# Altium integrated library Cypress Clocks & Buffers Clock Distribution.IntLib: 321 symbols (part 14 of 25)
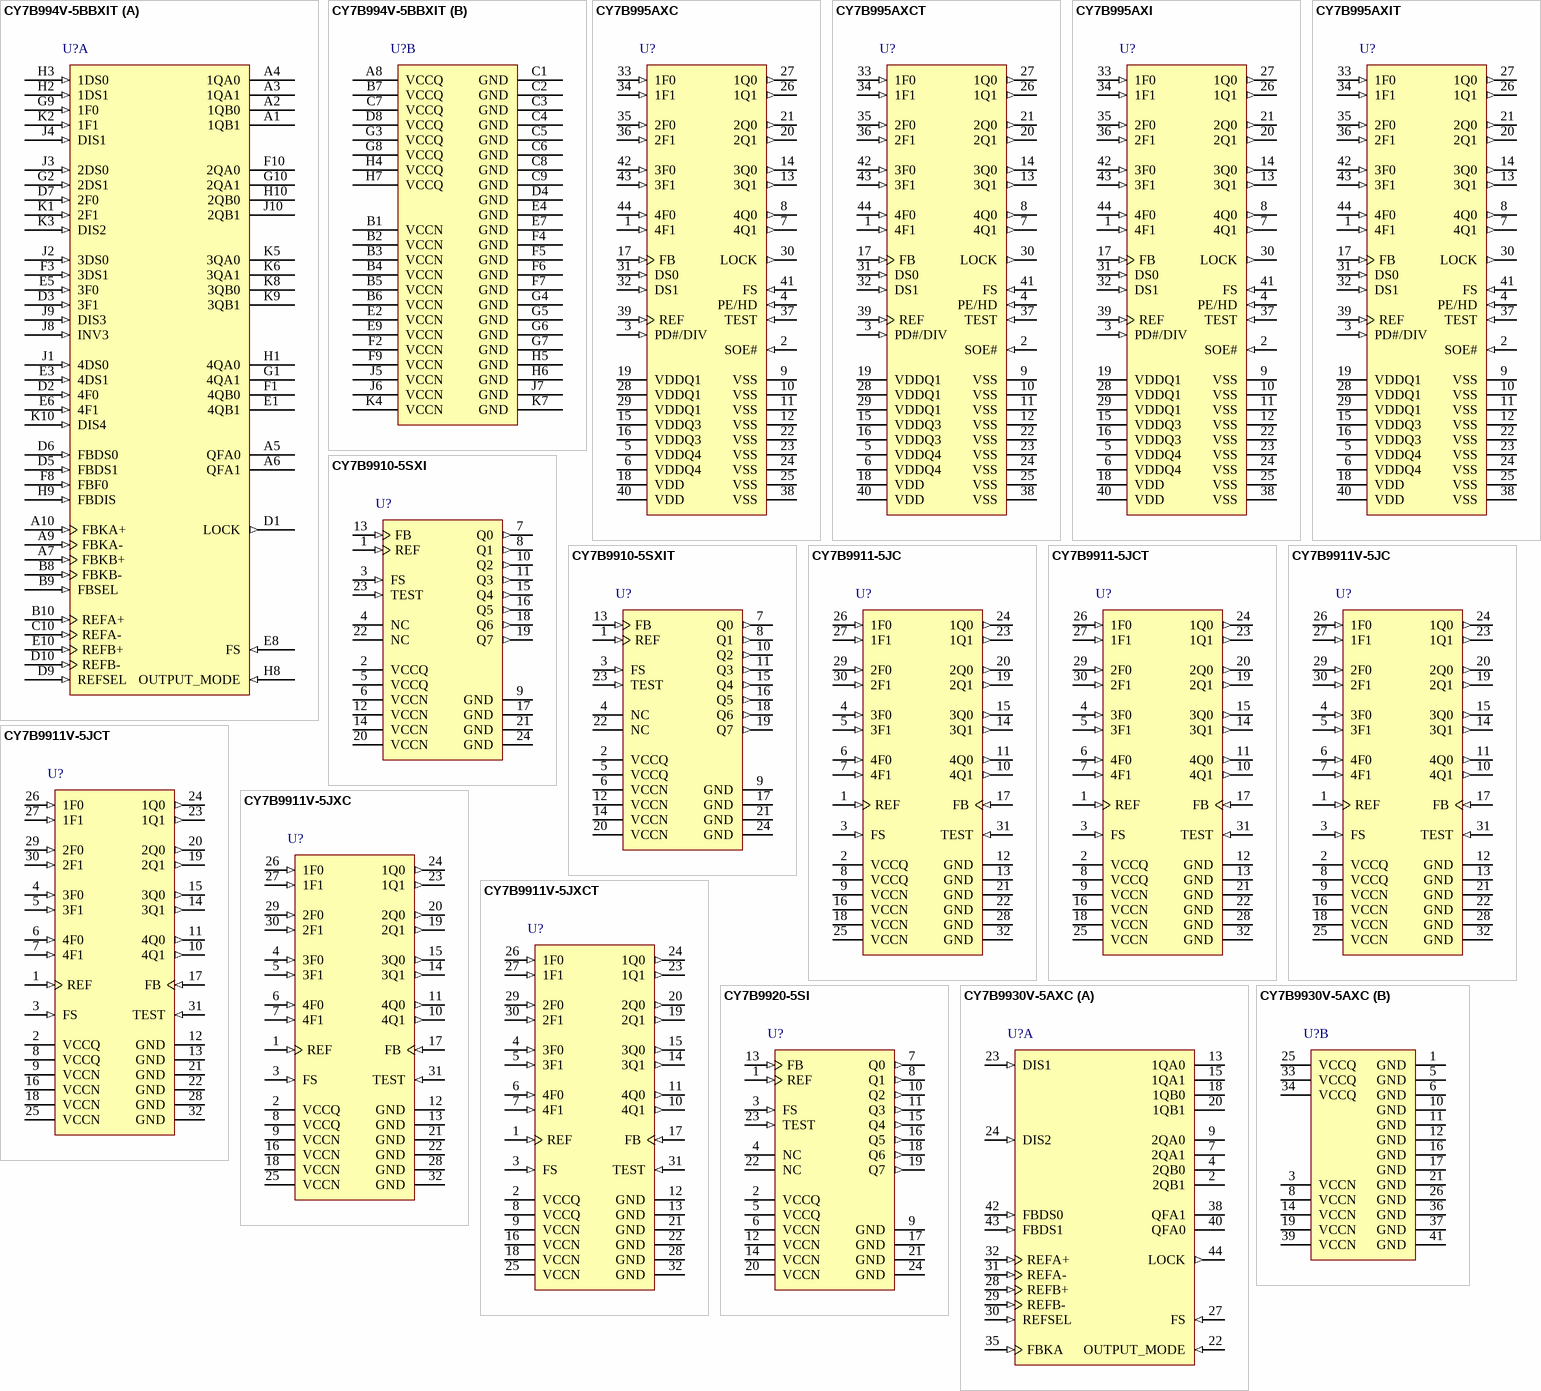
[diagram p29: symbols CY7B994V-5BBXIT to CY7B9930V-5AXC]

## CY7B995AXCT
designator U?
High-Speed Multi-Phase PLL Clock Buffer, 2.5 / 3.3 V, 8 Outputs, 6 to 200 MHz, 0 to 70 degC, 44-Pin TQFP (AX44), Tape and Reel; Manufacturer: Cypress; PartNumber: CY7B995AXCT; Input Frequency Max. (MHz): 200; Input Frequency Min. (MHz): 6; Max. Operating Voltage (V): 3.63; Min. Operating Voltage (V): 2.25; No. of Outputs: 8; DatasheetVersion: Rev. *G; PackageReference: AX44; PackageDescription: 44-Pin Thin Plastic Quad Flatpack, Body 10 x 10 mm, Pitch 0.8 mm; Supplier 1: Digi-Key; Supplier Part Number 1: CY7B995AXCT-ND; Supplier 2: Newark; Supplier Part Number 2: 53M3523; Supplier 3: Mouser; Supplier Part Number 3: 727-CY7B995AXCT; Max. Operating Temp. (degreesC): 70; Min. Operating Temp. (degreesC): 0; Output Frequency Max. (MHz): 200; Output Frequency Min. (MHz): 6; Packing: Tape and Reel; RoHS: Pb-Free; Mounting Technology: Surface Mount; Code_JEDEC: MS-026; ComponentLink1Description: Manufacturer URL; ComponentLink1URL: http://www.cypress.com/; ComponentLink2Description: Datasheet; ComponentLink2URL: http://www.cypress.com/?docID=48487; ComponentLink3Description: Package Specification; ComponentLink3URL: http://www.cypress.com/?docID=39206
footprint CYP-AX44_N (QFP, 44-Leads, Body 10x10mm, Pitch 0.8mm, IPC Medium Density)
footprint CYP-AX44_L (QFP, 44-Leads, Body 10x10mm, Pitch 0.8mm, IPC High Density)
footprint CYP-AX44_M (QFP, 44-Leads, Body 10x10mm, Pitch 0.8mm, IPC Low Density)
pins: 1 4F1 (in) "Selects Frequency and Phase of the Outputs. See Table 4, Table 5, Table 6, Table 8, and Table 9 on page 6.", 2 SOE# (in) "Synchronous Output Enable. When HIGH, it stops clock outputs (except 2Q0 and 2Q1) in a LOW state (for PE/HD = H or M) - 2Q0, and 2Q1 may be used as the feedback signal to maintain phase lock. When TEST is held at MID level (See Datasheet)", 3 PD#/DIV (in) "Power down and Reference Divider Control. When LOW, shuts off entire chip. When at MID level, enables the reference divider. See Table 2 for settings.", 4 PE/HD (in) "Selects Positive or Negative Edge Control, and High or Low output Drive Strength. When LOW/HIGH, the outputs are synchronized with the negative/positive edge of the reference clock respectively. When at MID level, the output (See Datasheet)", 5 VDDQ4 (power) "Power supply for Bank 4 Output Buffers. See Table 11 on page 7 for supply level constraints.", 6 VDDQ4 (power) "Power supply for Bank 4 Output Buffers. See Table 11 on page 7 for supply level constraints.", 7 4Q1 (out) "Four banks of two outputs. See Table 6 on page 6 for frequency settings.", 8 4Q0 (out) "Four banks of two outputs. See Table 6 on page 6 for frequency settings.", 9 VSS (power) "Ground", 10 VSS (power) "Ground", 11 VSS (power) "Ground", 12 VSS (power) "Ground", 13 3Q1 (out) "Four banks of two outputs. See Table 6 on page 6 for frequency settings.", 14 3Q0 (out) "Four banks of two outputs. See Table 6 on page 6 for frequency settings.", 15 VDDQ3 (power) "Power supply for Bank 3 Output Buffers. See Table 11 on page 7 for supply level constraints.", 16 VDDQ3 (power) "Power supply for Bank 3 Output Buffers. See Table 11 on page 7 for supply level constraints.", 17 FB (in) "Feedback Input.", 18 VDD (power) "Power supply for the Internal Circuitry. See Table 11 on page 7 for supply level constraints.", 19 VDDQ1 (power) "Power supply for Bank 1 and Bank 2 Output Buffers. See Table 11 on page 7 for supply level constraints.", 20 2Q1 (out) "Four banks of two outputs. See Table 6 on page 6 for frequency settings.", 21 2Q0 (out) "Four banks of two outputs. See Table 6 on page 6 for frequency settings.", 22 VSS (power) "Ground", 23 VSS (power) "Ground", 24 VSS (power) "Ground", 25 VSS (power) "Ground", 26 1Q1 (out) "Four banks of two outputs. See Table 6 on page 6 for frequency settings.", 27 1Q0 (out) "Four banks of two outputs. See Table 6 on page 6 for frequency settings.", 28 VDDQ1 (power) "Power supply for Bank 1 and Bank 2 Output Buffers. See Table 11 on page 7 for supply level constraints.", 29 VDDQ1 (power) "Power supply for Bank 1 and Bank 2 Output Buffers. See Table 11 on page 7 for supply level constraints.", 30 LOCK (out) "PLL Lock Indication Signal. HIGH indicates lock, LOW indicates the PLL is not locked, and outputs may not be synchronized to the input.", 31 DS0 (in) "Selects Feedback Divider. See Table 3 on page 6.", 32 DS1 (in) "Selects Feedback Divider. See Table 3 on page 6.", 33 1F0 (in) "Selects Frequency and Phase of the Outputs. See Table 4, Table 5, Table 6, Table 8, and Table 9 on page 6.", 34 1F1 (in) "Selects Frequency and Phase of the Outputs. See Table 4, Table 5, Table 6, Table 8, and Table 9 on page 6.", 35 2F0 (in) "Selects Frequency and Phase of the Outputs. See Table 4, Table 5, Table 6, Table 8, and Table 9 on page 6.", 36 2F1 (in) "Selects Frequency and Phase of the Outputs. See Table 4, Table 5, Table 6, Table 8, and Table 9 on page 6.", 37 TEST (in) "When MID or HIGH, disables PLL[2]. REF goes to all outputs. Set LOW for normal operation.", 38 VSS (power) "Ground", 39 REF (in) "Reference Clock Input.", 40 VDD (power) "Power supply for the Internal Circuitry. See Table 11 on page 7 for supply level constraints.", 41 FS (in) "Selects VCO Operating Frequency Range. See Table 7 on page 6.", 42 3F0 (in) "Selects Frequency and Phase of the Outputs. See Table 4, Table 5, Table 6, Table 8, and Table 9 on page 6.", 43 3F1 (in) "Selects Frequency and Phase of the Outputs. See Table 4, Table 5, Table 6, Table 8, and Table 9 on page 6.", 44 4F0 (in) "Selects Frequency and Phase of the Outputs. See Table 4, Table 5, Table 6, Table 8, and Table 9 on page 6."

## CY7B995AXI
designator U?
High-Speed Multi-Phase PLL Clock Buffer, 2.5 / 3.3 V, 8 Outputs, 6 to 200 MHz, -40 to 85 degC, 44-Pin TQFP (AX44), Tray; Manufacturer: Cypress; PartNumber: CY7B995AXI; Input Frequency Max. (MHz): 200; Input Frequency Min. (MHz): 6; Max. Operating Voltage (V): 3.63; Min. Operating Voltage (V): 2.25; No. of Outputs: 8; DatasheetVersion: Rev. *G; PackageReference: AX44; PackageDescription: 44-Pin Thin Plastic Quad Flatpack, Body 10 x 10 mm, Pitch 0.8 mm; Supplier 1: Digi-Key; Supplier Part Number 1: CY7B995AXI-ND; Supplier 2: Newark; Supplier Part Number 2: 41M1340; Supplier 3: Mouser; Supplier Part Number 3: 727-CY7B995AXI; Max. Operating Temp. (degreesC): 85; Min. Operating Temp. (degreesC): -40; Output Frequency Max. (MHz): 200; Output Frequency Min. (MHz): 6; Packing: Tray; RoHS: Pb-Free; Mounting Technology: Surface Mount; Code_JEDEC: MS-026; ComponentLink1Description: Manufacturer URL; ComponentLink1URL: http://www.cypress.com/; ComponentLink2Description: Datasheet; ComponentLink2URL: http://www.cypress.com/?docID=48487; ComponentLink3Description: Package Specification; ComponentLink3URL: http://www.cypress.com/?docID=39206
footprint CYP-AX44_N (QFP, 44-Leads, Body 10x10mm, Pitch 0.8mm, IPC Medium Density)
footprint CYP-AX44_L (QFP, 44-Leads, Body 10x10mm, Pitch 0.8mm, IPC High Density)
footprint CYP-AX44_M (QFP, 44-Leads, Body 10x10mm, Pitch 0.8mm, IPC Low Density)
pins: 1 4F1 (in) "Selects Frequency and Phase of the Outputs. See Table 4, Table 5, Table 6, Table 8, and Table 9 on page 6.", 2 SOE# (in) "Synchronous Output Enable. When HIGH, it stops clock outputs (except 2Q0 and 2Q1) in a LOW state (for PE/HD = H or M) - 2Q0, and 2Q1 may be used as the feedback signal to maintain phase lock. When TEST is held at MID level (See Datasheet)", 3 PD#/DIV (in) "Power down and Reference Divider Control. When LOW, shuts off entire chip. When at MID level, enables the reference divider. See Table 2 for settings.", 4 PE/HD (in) "Selects Positive or Negative Edge Control, and High or Low output Drive Strength. When LOW/HIGH, the outputs are synchronized with the negative/positive edge of the reference clock respectively. When at MID level, the output (See Datasheet)", 5 VDDQ4 (power) "Power supply for Bank 4 Output Buffers. See Table 11 on page 7 for supply level constraints.", 6 VDDQ4 (power) "Power supply for Bank 4 Output Buffers. See Table 11 on page 7 for supply level constraints.", 7 4Q1 (out) "Four banks of two outputs. See Table 6 on page 6 for frequency settings.", 8 4Q0 (out) "Four banks of two outputs. See Table 6 on page 6 for frequency settings.", 9 VSS (power) "Ground", 10 VSS (power) "Ground", 11 VSS (power) "Ground", 12 VSS (power) "Ground", 13 3Q1 (out) "Four banks of two outputs. See Table 6 on page 6 for frequency settings.", 14 3Q0 (out) "Four banks of two outputs. See Table 6 on page 6 for frequency settings.", 15 VDDQ3 (power) "Power supply for Bank 3 Output Buffers. See Table 11 on page 7 for supply level constraints.", 16 VDDQ3 (power) "Power supply for Bank 3 Output Buffers. See Table 11 on page 7 for supply level constraints.", 17 FB (in) "Feedback Input.", 18 VDD (power) "Power supply for the Internal Circuitry. See Table 11 on page 7 for supply level constraints.", 19 VDDQ1 (power) "Power supply for Bank 1 and Bank 2 Output Buffers. See Table 11 on page 7 for supply level constraints.", 20 2Q1 (out) "Four banks of two outputs. See Table 6 on page 6 for frequency settings.", 21 2Q0 (out) "Four banks of two outputs. See Table 6 on page 6 for frequency settings.", 22 VSS (power) "Ground", 23 VSS (power) "Ground", 24 VSS (power) "Ground", 25 VSS (power) "Ground", 26 1Q1 (out) "Four banks of two outputs. See Table 6 on page 6 for frequency settings.", 27 1Q0 (out) "Four banks of two outputs. See Table 6 on page 6 for frequency settings.", 28 VDDQ1 (power) "Power supply for Bank 1 and Bank 2 Output Buffers. See Table 11 on page 7 for supply level constraints.", 29 VDDQ1 (power) "Power supply for Bank 1 and Bank 2 Output Buffers. See Table 11 on page 7 for supply level constraints.", 30 LOCK (out) "PLL Lock Indication Signal. HIGH indicates lock, LOW indicates the PLL is not locked, and outputs may not be synchronized to the input.", 31 DS0 (in) "Selects Feedback Divider. See Table 3 on page 6.", 32 DS1 (in) "Selects Feedback Divider. See Table 3 on page 6.", 33 1F0 (in) "Selects Frequency and Phase of the Outputs. See Table 4, Table 5, Table 6, Table 8, and Table 9 on page 6.", 34 1F1 (in) "Selects Frequency and Phase of the Outputs. See Table 4, Table 5, Table 6, Table 8, and Table 9 on page 6.", 35 2F0 (in) "Selects Frequency and Phase of the Outputs. See Table 4, Table 5, Table 6, Table 8, and Table 9 on page 6.", 36 2F1 (in) "Selects Frequency and Phase of the Outputs. See Table 4, Table 5, Table 6, Table 8, and Table 9 on page 6.", 37 TEST (in) "When MID or HIGH, disables PLL[2]. REF goes to all outputs. Set LOW for normal operation.", 38 VSS (power) "Ground", 39 REF (in) "Reference Clock Input.", 40 VDD (power) "Power supply for the Internal Circuitry. See Table 11 on page 7 for supply level constraints.", 41 FS (in) "Selects VCO Operating Frequency Range. See Table 7 on page 6.", 42 3F0 (in) "Selects Frequency and Phase of the Outputs. See Table 4, Table 5, Table 6, Table 8, and Table 9 on page 6.", 43 3F1 (in) "Selects Frequency and Phase of the Outputs. See Table 4, Table 5, Table 6, Table 8, and Table 9 on page 6.", 44 4F0 (in) "Selects Frequency and Phase of the Outputs. See Table 4, Table 5, Table 6, Table 8, and Table 9 on page 6."

## CY7B995AXIT
designator U?
High-Speed Multi-Phase PLL Clock Buffer, 2.5 / 3.3 V, 8 Outputs, 6 to 200 MHz, -40 to 85 degC, 44-Pin TQFP (AX44), Tape and Reel; Manufacturer: Cypress; PartNumber: CY7B995AXIT; Input Frequency Max. (MHz): 200; Input Frequency Min. (MHz): 6; Max. Operating Voltage (V): 3.63; Min. Operating Voltage (V): 2.25; No. of Outputs: 8; DatasheetVersion: Rev. *G; PackageReference: AX44; PackageDescription: 44-Pin Thin Plastic Quad Flatpack, Body 10 x 10 mm, Pitch 0.8 mm; Supplier 1: Digi-Key; Supplier Part Number 1: CY7B995AXIT-ND; Supplier 2: Mouser; Supplier Part Number 2: 727-CY7B995AXIT; Max. Operating Temp. (degreesC): 85; Min. Operating Temp. (degreesC): -40; Output Frequency Max. (MHz): 200; Output Frequency Min. (MHz): 6; Packing: Tape and Reel; RoHS: Pb-Free; Mounting Technology: Surface Mount; Code_JEDEC: MS-026; ComponentLink1Description: Manufacturer URL; ComponentLink1URL: http://www.cypress.com/; ComponentLink2Description: Datasheet; ComponentLink2URL: http://www.cypress.com/?docID=48487; ComponentLink3Description: Package Specification; ComponentLink3URL: http://www.cypress.com/?docID=39206
footprint CYP-AX44_N (QFP, 44-Leads, Body 10x10mm, Pitch 0.8mm, IPC Medium Density)
footprint CYP-AX44_L (QFP, 44-Leads, Body 10x10mm, Pitch 0.8mm, IPC High Density)
footprint CYP-AX44_M (QFP, 44-Leads, Body 10x10mm, Pitch 0.8mm, IPC Low Density)
pins: 1 4F1 (in) "Selects Frequency and Phase of the Outputs. See Table 4, Table 5, Table 6, Table 8, and Table 9 on page 6.", 2 SOE# (in) "Synchronous Output Enable. When HIGH, it stops clock outputs (except 2Q0 and 2Q1) in a LOW state (for PE/HD = H or M) - 2Q0, and 2Q1 may be used as the feedback signal to maintain phase lock. When TEST is held at MID level (See Datasheet)", 3 PD#/DIV (in) "Power down and Reference Divider Control. When LOW, shuts off entire chip. When at MID level, enables the reference divider. See Table 2 for settings.", 4 PE/HD (in) "Selects Positive or Negative Edge Control, and High or Low output Drive Strength. When LOW/HIGH, the outputs are synchronized with the negative/positive edge of the reference clock respectively. When at MID level, the output (See Datasheet)", 5 VDDQ4 (power) "Power supply for Bank 4 Output Buffers. See Table 11 on page 7 for supply level constraints.", 6 VDDQ4 (power) "Power supply for Bank 4 Output Buffers. See Table 11 on page 7 for supply level constraints.", 7 4Q1 (out) "Four banks of two outputs. See Table 6 on page 6 for frequency settings.", 8 4Q0 (out) "Four banks of two outputs. See Table 6 on page 6 for frequency settings.", 9 VSS (power) "Ground", 10 VSS (power) "Ground", 11 VSS (power) "Ground", 12 VSS (power) "Ground", 13 3Q1 (out) "Four banks of two outputs. See Table 6 on page 6 for frequency settings.", 14 3Q0 (out) "Four banks of two outputs. See Table 6 on page 6 for frequency settings.", 15 VDDQ3 (power) "Power supply for Bank 3 Output Buffers. See Table 11 on page 7 for supply level constraints.", 16 VDDQ3 (power) "Power supply for Bank 3 Output Buffers. See Table 11 on page 7 for supply level constraints.", 17 FB (in) "Feedback Input.", 18 VDD (power) "Power supply for the Internal Circuitry. See Table 11 on page 7 for supply level constraints.", 19 VDDQ1 (power) "Power supply for Bank 1 and Bank 2 Output Buffers. See Table 11 on page 7 for supply level constraints.", 20 2Q1 (out) "Four banks of two outputs. See Table 6 on page 6 for frequency settings.", 21 2Q0 (out) "Four banks of two outputs. See Table 6 on page 6 for frequency settings.", 22 VSS (power) "Ground", 23 VSS (power) "Ground", 24 VSS (power) "Ground", 25 VSS (power) "Ground", 26 1Q1 (out) "Four banks of two outputs. See Table 6 on page 6 for frequency settings.", 27 1Q0 (out) "Four banks of two outputs. See Table 6 on page 6 for frequency settings.", 28 VDDQ1 (power) "Power supply for Bank 1 and Bank 2 Output Buffers. See Table 11 on page 7 for supply level constraints.", 29 VDDQ1 (power) "Power supply for Bank 1 and Bank 2 Output Buffers. See Table 11 on page 7 for supply level constraints.", 30 LOCK (out) "PLL Lock Indication Signal. HIGH indicates lock, LOW indicates the PLL is not locked, and outputs may not be synchronized to the input.", 31 DS0 (in) "Selects Feedback Divider. See Table 3 on page 6.", 32 DS1 (in) "Selects Feedback Divider. See Table 3 on page 6.", 33 1F0 (in) "Selects Frequency and Phase of the Outputs. See Table 4, Table 5, Table 6, Table 8, and Table 9 on page 6.", 34 1F1 (in) "Selects Frequency and Phase of the Outputs. See Table 4, Table 5, Table 6, Table 8, and Table 9 on page 6.", 35 2F0 (in) "Selects Frequency and Phase of the Outputs. See Table 4, Table 5, Table 6, Table 8, and Table 9 on page 6.", 36 2F1 (in) "Selects Frequency and Phase of the Outputs. See Table 4, Table 5, Table 6, Table 8, and Table 9 on page 6.", 37 TEST (in) "When MID or HIGH, disables PLL[2]. REF goes to all outputs. Set LOW for normal operation.", 38 VSS (power) "Ground", 39 REF (in) "Reference Clock Input.", 40 VDD (power) "Power supply for the Internal Circuitry. See Table 11 on page 7 for supply level constraints.", 41 FS (in) "Selects VCO Operating Frequency Range. See Table 7 on page 6.", 42 3F0 (in) "Selects Frequency and Phase of the Outputs. See Table 4, Table 5, Table 6, Table 8, and Table 9 on page 6.", 43 3F1 (in) "Selects Frequency and Phase of the Outputs. See Table 4, Table 5, Table 6, Table 8, and Table 9 on page 6.", 44 4F0 (in) "Selects Frequency and Phase of the Outputs. See Table 4, Table 5, Table 6, Table 8, and Table 9 on page 6."

## CY7B9910-5SXI
designator U?
Low Skew Clock Buffer, 5 V, 8 Outputs, 15 to 80 MHz, -40 to 85 degC, 24-Pin SOIC (SX24), Tube; Manufacturer: Cypress; PartNumber: CY7B9910-5SXI; Input Frequency Max. (MHz): 80; Input Frequency Min. (MHz): 15; Max. Operating Voltage (V): 5.5; Min. Operating Voltage (V): 4.5; No. of Outputs: 8; DatasheetVersion: Rev. *H; PackageVersion: Rev. *E; PackageReference: SX24; PackageDescription: 24-Pin Small Outline Integrated Circuit Package, Body 7.506 x 15.392 mm, Pitch 1.27 mm; Supplier 1: Digi-Key; Supplier Part Number 1: CY7B9910-5SXI-ND; Supplier 2: Mouser; Supplier Part Number 2: 727-CY7B9910-5SXI; Max. Operating Temp. (degreesC): 85; Min. Operating Temp. (degreesC): -40; Output Frequency Max. (MHz): 80; Output Frequency Min. (MHz): 15; Packing: Tube; RoHS: Pb-Free; Mounting Technology: Surface Mount; Code_JEDEC: MO-119; ComponentLink1Description: Manufacturer URL; ComponentLink1URL: http://www.cypress.com/; ComponentLink2Description: Datasheet; ComponentLink2URL: http://www.cypress.com/?docID=46367; ComponentLink3Description: Package Specification; ComponentLink3URL: http://www.cypress.com/?docID=41007
footprint CYP-SX24_N (SOIC, 24-Leads, Body 15.6x7.6mm, Pitch 1.27mm, IPC Medium Density)
footprint CYP-SX24_L (SOIC, 24-Leads, Body 15.6x7.6mm, Pitch 1.27mm, IPC High Density)
footprint CYP-SX24_M (SOIC, 24-Leads, Body 15.6x7.6mm, Pitch 1.27mm, IPC Low Density)
pins: 1 REF (in) "Reference frequency input. This input supplies the frequency and timing against which all functional variations are measured.", 2 VCCQ (power) "Power supply for internal circuitry.", 3 FS (in) "Three level frequency range select. The ranges are described in the switching characteristics tables.", 4 NC "No connect.", 5 VCCQ (power) "Power supply for internal circuitry.", 6 VCCN (power) "Power supply for output drivers.", 7 Q0 (out) "Clock output.", 8 Q1 (out) "Clock output.", 9 GND (power) "Ground.", 10 Q2 (out) "Clock output.", 11 Q3 (out) "Clock output.", 12 VCCN (power) "Power supply for output drivers.", 13 FB (in) "PLL feedback input (typically connected to one of the eight outputs).", 14 VCCN (power) "Power supply for output drivers.", 15 Q4 (out) "Clock output.", 16 Q5 (out) "Clock output.", 17 GND (power) "Ground.", 18 Q6 (out) "Clock output.", 19 Q7 (out) "Clock output.", 20 VCCN (power) "Power supply for output drivers.", 21 GND (power) "Ground.", 22 NC "No connect.", 23 TEST (in) "Three level select. See TEST MODE.", 24 GND (power) "Ground."

## CY7B9910-5SXIT
designator U?
Low Skew Clock Buffer, 5 V, 8 Outputs, 15 to 80 MHz, -40 to 85 degC, 24-Pin SOIC (SX24), Tape and Reel; Manufacturer: Cypress; PartNumber: CY7B9910-5SXIT; Input Frequency Max. (MHz): 80; Input Frequency Min. (MHz): 15; Max. Operating Voltage (V): 5.5; Min. Operating Voltage (V): 4.5; No. of Outputs: 8; DatasheetVersion: Rev. *H; PackageVersion: Rev. *E; PackageReference: SX24; PackageDescription: 24-Pin Small Outline Integrated Circuit Package, Body 7.506 x 15.392 mm, Pitch 1.27 mm; Supplier 1: Digi-Key; Supplier Part Number 1: CY7B9910-5SXIT-ND; Supplier 2: Mouser; Supplier Part Number 2: 727-CY7B9910-5SXIT; Max. Operating Temp. (degreesC): 85; Min. Operating Temp. (degreesC): -40; Output Frequency Max. (MHz): 80; Output Frequency Min. (MHz): 15; Packing: Tape and Reel; RoHS: Pb-Free; Mounting Technology: Surface Mount; Code_JEDEC: MO-119; ComponentLink1Description: Manufacturer URL; ComponentLink1URL: http://www.cypress.com/; ComponentLink2Description: Datasheet; ComponentLink2URL: http://www.cypress.com/?docID=46367; ComponentLink3Description: Package Specification; ComponentLink3URL: http://www.cypress.com/?docID=41007
footprint CYP-SX24_N (SOIC, 24-Leads, Body 15.6x7.6mm, Pitch 1.27mm, IPC Medium Density)
footprint CYP-SX24_L (SOIC, 24-Leads, Body 15.6x7.6mm, Pitch 1.27mm, IPC High Density)
footprint CYP-SX24_M (SOIC, 24-Leads, Body 15.6x7.6mm, Pitch 1.27mm, IPC Low Density)
pins: 1 REF (in) "Reference frequency input. This input supplies the frequency and timing against which all functional variations are measured.", 2 VCCQ (power) "Power supply for internal circuitry.", 3 FS (in) "Three level frequency range select. The ranges are described in the switching characteristics tables.", 4 NC "No connect.", 5 VCCQ (power) "Power supply for internal circuitry.", 6 VCCN (power) "Power supply for output drivers.", 7 Q0 (out) "Clock output.", 8 Q1 (out) "Clock output.", 9 GND (power) "Ground.", 10 Q2 (out) "Clock output.", 11 Q3 (out) "Clock output.", 12 VCCN (power) "Power supply for output drivers.", 13 FB (in) "PLL feedback input (typically connected to one of the eight outputs).", 14 VCCN (power) "Power supply for output drivers.", 15 Q4 (out) "Clock output.", 16 Q5 (out) "Clock output.", 17 GND (power) "Ground.", 18 Q6 (out) "Clock output.", 19 Q7 (out) "Clock output.", 20 VCCN (power) "Power supply for output drivers.", 21 GND (power) "Ground.", 22 NC "No connect.", 23 TEST (in) "Three level select. See TEST MODE.", 24 GND (power) "Ground."

## CY7B9911-5JC
designator U?
Programmable Skew Clock Buffer, 5 V, 8 Outputs, 3.75 to 100 MHz, 0 to 70 degC, 32-Pin PLCC (JX32); Manufacturer: Cypress; PartNumber: CY7B9911-5JC; Input Frequency Max. (MHz): 100; Input Frequency Min. (MHz): 15; Max. Operating Voltage (V): 5.5; Min. Operating Voltage (V): 4.5; No. of Outputs: 8; Output Frequency Min. (MHz): 3.75; DatasheetVersion: Rev. *G; PackageVersion: Rev. *D, 07/2011; PackageReference: JX32; PackageDescription: 32-Pin Plastic Leaded Chip Carrier, Body 13.97 x 11.43 mm, Pitch 1.27 mm; Supplier 1: Digi-Key; Supplier Part Number 1: CY7B9911-5JC-ND; Supplier 2: Mouser; Supplier Part Number 2: 727-CY7B9911-5JC; Max. Operating Temp. (degreesC): 70; Min. Operating Temp. (degreesC): 0; Output Frequency Max. (MHz): 100; Mounting Technology: Surface Mount; ComponentLink1Description: Manufacturer URL; ComponentLink1URL: http://www.cypress.com/; ComponentLink2Description: Datasheet; ComponentLink2URL: http://www.cypress.com/?docID=46861; ComponentLink3Description: Package Specification; ComponentLink3URL: http://www.cypress.com/?docID=39130
footprint CYP-JX32_N (PLCC, 32-Leads, Body 14.05x11.51mm, Pitch 1.27mm, IPC Medium Density)
footprint CYP-JX32_L (PLCC, 32-Leads, Body 14.05x11.51mm, Pitch 1.27mm, IPC High Density)
footprint CYP-JX32_M (PLCC, 32-Leads, Body 14.05x11.51mm, Pitch 1.27mm, IPC Low Density)
pins: 1 REF (in) "Reference frequency input. This input supplies the frequency and timing against which all functional variations are measured.", 2 VCCQ (power) "Power supply for internal circuitry.", 3 FS (in) "Three level frequency range select. See Table 1.", 4 3F0 (in) "Three level function select inputs for output pair 3 (3Q0, 3Q1). See Table 2.", 5 3F1 (in) "Three level function select inputs for output pair 3 (3Q0, 3Q1). See Table 2.", 6 4F0 (in) "Three level function select inputs for output pair 4 (4Q0, 4Q1). See Table 2.", 7 4F1 (in) "Three level function select inputs for output pair 4 (4Q0, 4Q1). See Table 2.", 8 VCCQ (power) "Power supply for internal circuitry.", 9 VCCN (power) "Power supply for output drivers.", 10 4Q1 (out) "Output pair 4. See Table 2.", 11 4Q0 (out) "Output pair 4. See Table 2.", 12 GND (power) "Ground.", 13 GND (power) "Ground.", 14 3Q1 (out) "Output pair 3. See Table 2.", 15 3Q0 (out) "Output pair 3. See Table 2.", 16 VCCN (power) "Power supply for output drivers.", 17 FB (in) "PLL feedback input (typically connected to one of the eight outputs).", 18 VCCN (power) "Power supply for output drivers.", 19 2Q1 (out) "Output pair 2. See Table 2.", 20 2Q0 (out) "Output pair 2. See Table 2.", 21 GND (power) "Ground.", 22 GND (power) "Ground.", 23 1Q1 (out) "Output pair 1. See Table 2.", 24 1Q0 (out) "Output pair 1. See Table 2.", 25 VCCN (power) "Power supply for output drivers.", 26 1F0 (in) "Three level function select inputs for output pair 1 (1Q0, 1Q1). See Table 2.", 27 1F1 (in) "Three level function select inputs for output pair 1 (1Q0, 1Q1). See Table 2.", 28 GND (power) "Ground.", 29 2F0 (in) "Three level function select inputs for output pair 2 (2Q0, 2Q1). See Table 2.", 30 2F1 (in) "Three level function select inputs for output pair 2 (2Q0, 2Q1). See Table 2.", 31 TEST (in) "Three level select. See Test Mode on page 5 under the Block Diagram Description on page 4.", 32 GND (power) "Ground."

## CY7B9911-5JCT
designator U?
Programmable Skew Clock Buffer, 5 V, 8 Outputs, 3.75 to 100 MHz, 0 to 70 degC, 32-Pin PLCC (JX32), Tape and Reel; Manufacturer: Cypress; PartNumber: CY7B9911-5JCT; Input Frequency Max. (MHz): 100; Input Frequency Min. (MHz): 15; Max. Operating Voltage (V): 5.5; Min. Operating Voltage (V): 4.5; No. of Outputs: 8; Output Frequency Min. (MHz): 3.75; DatasheetVersion: Rev. *G; PackageVersion: Rev. *D, 07/2011; PackageReference: JX32; PackageDescription: 32-Pin Plastic Leaded Chip Carrier, Body 13.97 x 11.43 mm, Pitch 1.27 mm; Supplier 1: Digi-Key; Supplier Part Number 1: CY7B9911-5JCT-ND; Supplier 2: Mouser; Supplier Part Number 2: 727-CY7B99115JCT; Max. Operating Temp. (degreesC): 70; Min. Operating Temp. (degreesC): 0; Output Frequency Max. (MHz): 100; Packing: Tape and Reel; Mounting Technology: Surface Mount; ComponentLink1Description: Manufacturer URL; ComponentLink1URL: http://www.cypress.com/; ComponentLink2Description: Datasheet; ComponentLink2URL: http://www.cypress.com/?docID=46861; ComponentLink3Description: Package Specification; ComponentLink3URL: http://www.cypress.com/?docID=39130
footprint CYP-JX32_N (PLCC, 32-Leads, Body 14.05x11.51mm, Pitch 1.27mm, IPC Medium Density)
footprint CYP-JX32_L (PLCC, 32-Leads, Body 14.05x11.51mm, Pitch 1.27mm, IPC High Density)
footprint CYP-JX32_M (PLCC, 32-Leads, Body 14.05x11.51mm, Pitch 1.27mm, IPC Low Density)
pins: 1 REF (in) "Reference frequency input. This input supplies the frequency and timing against which all functional variations are measured.", 2 VCCQ (power) "Power supply for internal circuitry.", 3 FS (in) "Three level frequency range select. See Table 1.", 4 3F0 (in) "Three level function select inputs for output pair 3 (3Q0, 3Q1). See Table 2.", 5 3F1 (in) "Three level function select inputs for output pair 3 (3Q0, 3Q1). See Table 2.", 6 4F0 (in) "Three level function select inputs for output pair 4 (4Q0, 4Q1). See Table 2.", 7 4F1 (in) "Three level function select inputs for output pair 4 (4Q0, 4Q1). See Table 2.", 8 VCCQ (power) "Power supply for internal circuitry.", 9 VCCN (power) "Power supply for output drivers.", 10 4Q1 (out) "Output pair 4. See Table 2.", 11 4Q0 (out) "Output pair 4. See Table 2.", 12 GND (power) "Ground.", 13 GND (power) "Ground.", 14 3Q1 (out) "Output pair 3. See Table 2.", 15 3Q0 (out) "Output pair 3. See Table 2.", 16 VCCN (power) "Power supply for output drivers.", 17 FB (in) "PLL feedback input (typically connected to one of the eight outputs).", 18 VCCN (power) "Power supply for output drivers.", 19 2Q1 (out) "Output pair 2. See Table 2.", 20 2Q0 (out) "Output pair 2. See Table 2.", 21 GND (power) "Ground.", 22 GND (power) "Ground.", 23 1Q1 (out) "Output pair 1. See Table 2.", 24 1Q0 (out) "Output pair 1. See Table 2.", 25 VCCN (power) "Power supply for output drivers.", 26 1F0 (in) "Three level function select inputs for output pair 1 (1Q0, 1Q1). See Table 2.", 27 1F1 (in) "Three level function select inputs for output pair 1 (1Q0, 1Q1). See Table 2.", 28 GND (power) "Ground.", 29 2F0 (in) "Three level function select inputs for output pair 2 (2Q0, 2Q1). See Table 2.", 30 2F1 (in) "Three level function select inputs for output pair 2 (2Q0, 2Q1). See Table 2.", 31 TEST (in) "Three level select. See Test Mode on page 5 under the Block Diagram Description on page 4.", 32 GND (power) "Ground."

## CY7B9911V-5JC
designator U?
High Speed Low Voltage Programmable Skew Clock Buffer, 3.3 V, 8 Outputs, 3.75 to 110 MHz, 0 to 70 degC, 32-Pin PLCC (JX32); Manufacturer: Cypress; PartNumber: CY7B9911V-5JC; Input Frequency Max. (MHz): 110; Input Frequency Min. (MHz): 3.75; Max. Operating Voltage (V): 3.63; Min. Operating Voltage (V): 2.97; No. of Outputs: 8; DatasheetVersion: Rev. *G; PackageVersion: Rev. *D, 07/2011; PackageReference: JX32; PackageDescription: 32-Pin Plastic Leaded Chip Carrier, Body 13.97 x 11.43 mm, Pitch 1.27 mm; Supplier 1: Digi-Key; Supplier Part Number 1: CY7B9911V-5JC-ND; Supplier 2: Mouser; Supplier Part Number 2: 727-CY7B9911V5JC; Max. Operating Temp. (degreesC): 70; Min. Operating Temp. (degreesC): 0; Output Frequency Max. (MHz): 110; Output Frequency Min. (MHz): 3.75; Mounting Technology: Surface Mount; ComponentLink1Description: Manufacturer URL; ComponentLink1URL: http://www.cypress.com/; ComponentLink2Description: Datasheet; ComponentLink2URL: http://www.cypress.com/?docID=48816; ComponentLink3Description: Package Specification; ComponentLink3URL: http://www.cypress.com/?docID=39130
footprint CYP-JX32_N (PLCC, 32-Leads, Body 14.05x11.51mm, Pitch 1.27mm, IPC Medium Density)
footprint CYP-JX32_L (PLCC, 32-Leads, Body 14.05x11.51mm, Pitch 1.27mm, IPC High Density)
footprint CYP-JX32_M (PLCC, 32-Leads, Body 14.05x11.51mm, Pitch 1.27mm, IPC Low Density)
pins: 1 REF (in) "Reference frequency input. This input supplies the frequency and timing against which all functional variations are measured.", 2 VCCQ (power) "Power supply for internal circuitry.", 3 FS (in) "Three level frequency range select. See Table 1.", 4 3F0 (in) "Three level function select inputs for output pair 3 (3Q0, 3Q1). See Table 2.", 5 3F1 (in) "Three level function select inputs for output pair 3 (3Q0, 3Q1). See Table 2.", 6 4F0 (in) "Three level function select inputs for output pair 4 (4Q0, 4Q1). See Table 2.", 7 4F1 (in) "Three level function select inputs for output pair 4 (4Q0, 4Q1). See Table 2.", 8 VCCQ (power) "Power supply for internal circuitry.", 9 VCCN (power) "Power supply for output drivers.", 10 4Q1 (out) "Output pair 4. See Table 2.", 11 4Q0 (out) "Output pair 4. See Table 2.", 12 GND (power) "Ground.", 13 GND (power) "Ground.", 14 3Q1 (out) "Output pair 3. See Table 2.", 15 3Q0 (out) "Output pair 3. See Table 2.", 16 VCCN (power) "Power supply for output drivers.", 17 FB (in) "PLL feedback input (typically connected to one of the eight outputs).", 18 VCCN (power) "Power supply for output drivers.", 19 2Q1 (out) "Output pair 2. See Table 2.", 20 2Q0 (out) "Output pair 2. See Table 2.", 21 GND (power) "Ground.", 22 GND (power) "Ground.", 23 1Q1 (out) "Output pair 1. See Table 2.", 24 1Q0 (out) "Output pair 1. See Table 2.", 25 VCCN (power) "Power supply for output drivers.", 26 1F0 (in) "Three level function select inputs for output pair 1 (1Q0, 1Q1). See Table 2.", 27 1F1 (in) "Three level function select inputs for output pair 1 (1Q0, 1Q1). See Table 2.", 28 GND (power) "Ground.", 29 2F0 (in) "Three level function select inputs for output pair 2 (2Q0, 2Q1). See Table 2.", 30 2F1 (in) "Three level function select inputs for output pair 2 (2Q0, 2Q1). See Table 2.", 31 TEST (in) "Three level select. See Test Mode on page 5 under the Block Diagram Description on page 4.", 32 GND (power) "Ground."

## CY7B9911V-5JCT
designator U?
High Speed Low Voltage Programmable Skew Clock Buffer, 3.3 V, 8 Outputs, 3.75 to 110 MHz, 0 to 70 degC, 32-Pin PLCC (JX32), Tape and Reel; Manufacturer: Cypress; PartNumber: CY7B9911V-5JCT; Input Frequency Max. (MHz): 110; Input Frequency Min. (MHz): 3.75; Max. Operating Voltage (V): 3.63; Min. Operating Voltage (V): 2.97; No. of Outputs: 8; DatasheetVersion: Rev. *G; PackageVersion: Rev. *D, 07/2011; PackageReference: JX32; PackageDescription: 32-Pin Plastic Leaded Chip Carrier, Body 13.97 x 11.43 mm, Pitch 1.27 mm; Supplier 1: Mouser; Supplier Part Number 1: N/A; Max. Operating Temp. (degreesC): 70; Min. Operating Temp. (degreesC): 0; Output Frequency Max. (MHz): 110; Output Frequency Min. (MHz): 3.75; Packing: Tape and Reel; Mounting Technology: Surface Mount; ComponentLink1Description: Manufacturer URL; ComponentLink1URL: http://www.cypress.com/; ComponentLink2Description: Datasheet; ComponentLink2URL: http://www.cypress.com/?docID=48816; ComponentLink3Description: Package Specification; ComponentLink3URL: http://www.cypress.com/?docID=39130
footprint CYP-JX32_N (PLCC, 32-Leads, Body 14.05x11.51mm, Pitch 1.27mm, IPC Medium Density)
footprint CYP-JX32_L (PLCC, 32-Leads, Body 14.05x11.51mm, Pitch 1.27mm, IPC High Density)
footprint CYP-JX32_M (PLCC, 32-Leads, Body 14.05x11.51mm, Pitch 1.27mm, IPC Low Density)
pins: 1 REF (in) "Reference frequency input. This input supplies the frequency and timing against which all functional variations are measured.", 2 VCCQ (power) "Power supply for internal circuitry.", 3 FS (in) "Three level frequency range select. See Table 1.", 4 3F0 (in) "Three level function select inputs for output pair 3 (3Q0, 3Q1). See Table 2.", 5 3F1 (in) "Three level function select inputs for output pair 3 (3Q0, 3Q1). See Table 2.", 6 4F0 (in) "Three level function select inputs for output pair 4 (4Q0, 4Q1). See Table 2.", 7 4F1 (in) "Three level function select inputs for output pair 4 (4Q0, 4Q1). See Table 2.", 8 VCCQ (power) "Power supply for internal circuitry.", 9 VCCN (power) "Power supply for output drivers.", 10 4Q1 (out) "Output pair 4. See Table 2.", 11 4Q0 (out) "Output pair 4. See Table 2.", 12 GND (power) "Ground.", 13 GND (power) "Ground.", 14 3Q1 (out) "Output pair 3. See Table 2.", 15 3Q0 (out) "Output pair 3. See Table 2.", 16 VCCN (power) "Power supply for output drivers.", 17 FB (in) "PLL feedback input (typically connected to one of the eight outputs).", 18 VCCN (power) "Power supply for output drivers.", 19 2Q1 (out) "Output pair 2. See Table 2.", 20 2Q0 (out) "Output pair 2. See Table 2.", 21 GND (power) "Ground.", 22 GND (power) "Ground.", 23 1Q1 (out) "Output pair 1. See Table 2.", 24 1Q0 (out) "Output pair 1. See Table 2.", 25 VCCN (power) "Power supply for output drivers.", 26 1F0 (in) "Three level function select inputs for output pair 1 (1Q0, 1Q1). See Table 2.", 27 1F1 (in) "Three level function select inputs for output pair 1 (1Q0, 1Q1). See Table 2.", 28 GND (power) "Ground.", 29 2F0 (in) "Three level function select inputs for output pair 2 (2Q0, 2Q1). See Table 2.", 30 2F1 (in) "Three level function select inputs for output pair 2 (2Q0, 2Q1). See Table 2.", 31 TEST (in) "Three level select. See Test Mode on page 5 under the Block Diagram Description on page 4.", 32 GND (power) "Ground."

## CY7B9911V-5JXC
designator U?
High Speed Low Voltage Programmable Skew Clock Buffer, 3.3 V, 8 Outputs, 3.75 to 110 MHz, 0 to 70 degC, 32-Pin PLCC (JX32); Manufacturer: Cypress; PartNumber: CY7B9911V-5JXC; Input Frequency Max. (MHz): 110; Input Frequency Min. (MHz): 3.75; Max. Operating Voltage (V): 3.63; Min. Operating Voltage (V): 2.97; No. of Outputs: 8; DatasheetVersion: Rev. *G; PackageVersion: Rev. *D, 07/2011; PackageReference: JX32; PackageDescription: 32-Pin Plastic Leaded Chip Carrier, Body 13.97 x 11.43 mm, Pitch 1.27 mm; Supplier 1: Digi-Key; Supplier Part Number 1: 428-2240-5-ND; Supplier 2: Newark; Supplier Part Number 2: 19M2648; Supplier 3: Mouser; Supplier Part Number 3: 727-CY7B9911V-5JXC; Max. Operating Temp. (degreesC): 70; Min. Operating Temp. (degreesC): 0; Output Frequency Max. (MHz): 110; Output Frequency Min. (MHz): 3.75; RoHS: Pb-Free; Mounting Technology: Surface Mount; ComponentLink1Description: Manufacturer URL; ComponentLink1URL: http://www.cypress.com/; ComponentLink2Description: Datasheet; ComponentLink2URL: http://www.cypress.com/?docID=48816; ComponentLink3Description: Package Specification; ComponentLink3URL: http://www.cypress.com/?docID=39130
footprint CYP-JX32_N (PLCC, 32-Leads, Body 14.05x11.51mm, Pitch 1.27mm, IPC Medium Density)
footprint CYP-JX32_L (PLCC, 32-Leads, Body 14.05x11.51mm, Pitch 1.27mm, IPC High Density)
footprint CYP-JX32_M (PLCC, 32-Leads, Body 14.05x11.51mm, Pitch 1.27mm, IPC Low Density)
pins: 1 REF (in) "Reference frequency input. This input supplies the frequency and timing against which all functional variations are measured.", 2 VCCQ (power) "Power supply for internal circuitry.", 3 FS (in) "Three level frequency range select. See Table 1.", 4 3F0 (in) "Three level function select inputs for output pair 3 (3Q0, 3Q1). See Table 2.", 5 3F1 (in) "Three level function select inputs for output pair 3 (3Q0, 3Q1). See Table 2.", 6 4F0 (in) "Three level function select inputs for output pair 4 (4Q0, 4Q1). See Table 2.", 7 4F1 (in) "Three level function select inputs for output pair 4 (4Q0, 4Q1). See Table 2.", 8 VCCQ (power) "Power supply for internal circuitry.", 9 VCCN (power) "Power supply for output drivers.", 10 4Q1 (out) "Output pair 4. See Table 2.", 11 4Q0 (out) "Output pair 4. See Table 2.", 12 GND (power) "Ground.", 13 GND (power) "Ground.", 14 3Q1 (out) "Output pair 3. See Table 2.", 15 3Q0 (out) "Output pair 3. See Table 2.", 16 VCCN (power) "Power supply for output drivers.", 17 FB (in) "PLL feedback input (typically connected to one of the eight outputs).", 18 VCCN (power) "Power supply for output drivers.", 19 2Q1 (out) "Output pair 2. See Table 2.", 20 2Q0 (out) "Output pair 2. See Table 2.", 21 GND (power) "Ground.", 22 GND (power) "Ground.", 23 1Q1 (out) "Output pair 1. See Table 2.", 24 1Q0 (out) "Output pair 1. See Table 2.", 25 VCCN (power) "Power supply for output drivers.", 26 1F0 (in) "Three level function select inputs for output pair 1 (1Q0, 1Q1). See Table 2.", 27 1F1 (in) "Three level function select inputs for output pair 1 (1Q0, 1Q1). See Table 2.", 28 GND (power) "Ground.", 29 2F0 (in) "Three level function select inputs for output pair 2 (2Q0, 2Q1). See Table 2.", 30 2F1 (in) "Three level function select inputs for output pair 2 (2Q0, 2Q1). See Table 2.", 31 TEST (in) "Three level select. See Test Mode on page 5 under the Block Diagram Description on page 4.", 32 GND (power) "Ground."

## CY7B9911V-5JXCT
designator U?
High Speed Low Voltage Programmable Skew Clock Buffer, 3.3 V, 8 Outputs, 3.75 to 110 MHz, 0 to 70 degC, 32-Pin PLCC (JX32), Tape and Reel; Manufacturer: Cypress; PartNumber: CY7B9911V-5JXCT; Input Frequency Max. (MHz): 110; Input Frequency Min. (MHz): 3.75; Max. Operating Voltage (V): 3.63; Min. Operating Voltage (V): 2.97; No. of Outputs: 8; DatasheetVersion: Rev. *G; PackageVersion: Rev. *D, 07/2011; PackageReference: JX32; PackageDescription: 32-Pin Plastic Leaded Chip Carrier, Body 13.97 x 11.43 mm, Pitch 1.27 mm; Supplier 1: Digi-Key; Supplier Part Number 1: CY7B9911V-5JXCT-ND; Supplier 2: Mouser; Supplier Part Number 2: 727-CY7B9911V5JXCT; Max. Operating Temp. (degreesC): 70; Min. Operating Temp. (degreesC): 0; Output Frequency Max. (MHz): 110; Output Frequency Min. (MHz): 3.75; Packing: Tape and Reel; RoHS: Pb-Free; Mounting Technology: Surface Mount; ComponentLink1Description: Manufacturer URL; ComponentLink1URL: http://www.cypress.com/; ComponentLink2Description: Datasheet; ComponentLink2URL: http://www.cypress.com/?docID=48816; ComponentLink3Description: Package Specification; ComponentLink3URL: http://www.cypress.com/?docID=39130
footprint CYP-JX32_N (PLCC, 32-Leads, Body 14.05x11.51mm, Pitch 1.27mm, IPC Medium Density)
footprint CYP-JX32_L (PLCC, 32-Leads, Body 14.05x11.51mm, Pitch 1.27mm, IPC High Density)
footprint CYP-JX32_M (PLCC, 32-Leads, Body 14.05x11.51mm, Pitch 1.27mm, IPC Low Density)
pins: 1 REF (in) "Reference frequency input. This input supplies the frequency and timing against which all functional variations are measured.", 2 VCCQ (power) "Power supply for internal circuitry.", 3 FS (in) "Three level frequency range select. See Table 1.", 4 3F0 (in) "Three level function select inputs for output pair 3 (3Q0, 3Q1). See Table 2.", 5 3F1 (in) "Three level function select inputs for output pair 3 (3Q0, 3Q1). See Table 2.", 6 4F0 (in) "Three level function select inputs for output pair 4 (4Q0, 4Q1). See Table 2.", 7 4F1 (in) "Three level function select inputs for output pair 4 (4Q0, 4Q1). See Table 2.", 8 VCCQ (power) "Power supply for internal circuitry.", 9 VCCN (power) "Power supply for output drivers.", 10 4Q1 (out) "Output pair 4. See Table 2.", 11 4Q0 (out) "Output pair 4. See Table 2.", 12 GND (power) "Ground.", 13 GND (power) "Ground.", 14 3Q1 (out) "Output pair 3. See Table 2.", 15 3Q0 (out) "Output pair 3. See Table 2.", 16 VCCN (power) "Power supply for output drivers.", 17 FB (in) "PLL feedback input (typically connected to one of the eight outputs).", 18 VCCN (power) "Power supply for output drivers.", 19 2Q1 (out) "Output pair 2. See Table 2.", 20 2Q0 (out) "Output pair 2. See Table 2.", 21 GND (power) "Ground.", 22 GND (power) "Ground.", 23 1Q1 (out) "Output pair 1. See Table 2.", 24 1Q0 (out) "Output pair 1. See Table 2.", 25 VCCN (power) "Power supply for output drivers.", 26 1F0 (in) "Three level function select inputs for output pair 1 (1Q0, 1Q1). See Table 2.", 27 1F1 (in) "Three level function select inputs for output pair 1 (1Q0, 1Q1). See Table 2.", 28 GND (power) "Ground.", 29 2F0 (in) "Three level function select inputs for output pair 2 (2Q0, 2Q1). See Table 2.", 30 2F1 (in) "Three level function select inputs for output pair 2 (2Q0, 2Q1). See Table 2.", 31 TEST (in) "Three level select. See Test Mode on page 5 under the Block Diagram Description on page 4.", 32 GND (power) "Ground."

## CY7B9920-5SI
designator U?
Low Skew Clock Buffer, 5 V, 8 Outputs, 15 to 80 MHz, -40 to 85 degC, 24-Pin SOIC (SX24), Tube; Manufacturer: Cypress; PartNumber: CY7B9920-5SI; Input Frequency Max. (MHz): 80; Input Frequency Min. (MHz): 15; Max. Operating Voltage (V): 5.5; Min. Operating Voltage (V): 4.5; No. of Outputs: 8; DatasheetVersion: Rev. *H; PackageVersion: Rev. *E; PackageReference: SX24; PackageDescription: 24-Pin Small Outline Integrated Circuit Package, Body 7.506 x 15.392 mm, Pitch 1.27 mm; Supplier 1: Digi-Key; Supplier Part Number 1: CY7B9920-5SI-ND; Supplier 2: Mouser; Supplier Part Number 2: N/A; Max. Operating Temp. (degreesC): 85; Min. Operating Temp. (degreesC): -40; Output Frequency Max. (MHz): 80; Output Frequency Min. (MHz): 15; Packing: Tube; Mounting Technology: Surface Mount; Code_JEDEC: MO-119; ComponentLink1Description: Manufacturer URL; ComponentLink1URL: http://www.cypress.com/; ComponentLink2Description: Datasheet; ComponentLink2URL: http://www.cypress.com/?docID=46367; ComponentLink3Description: Package Specification; ComponentLink3URL: http://www.cypress.com/?docID=41007
footprint CYP-SX24_N (SOIC, 24-Leads, Body 15.6x7.6mm, Pitch 1.27mm, IPC Medium Density)
footprint CYP-SX24_L (SOIC, 24-Leads, Body 15.6x7.6mm, Pitch 1.27mm, IPC High Density)
footprint CYP-SX24_M (SOIC, 24-Leads, Body 15.6x7.6mm, Pitch 1.27mm, IPC Low Density)
pins: 1 REF (in) "Reference frequency input. This input supplies the frequency and timing against which all functional variations are measured.", 2 VCCQ (power) "Power supply for internal circuitry.", 3 FS (in) "Three level frequency range select. The ranges are described in the switching characteristics tables.", 4 NC "No connect.", 5 VCCQ (power) "Power supply for internal circuitry.", 6 VCCN (power) "Power supply for output drivers.", 7 Q0 (out) "Clock output.", 8 Q1 (out) "Clock output.", 9 GND (power) "Ground.", 10 Q2 (out) "Clock output.", 11 Q3 (out) "Clock output.", 12 VCCN (power) "Power supply for output drivers.", 13 FB (in) "PLL feedback input (typically connected to one of the eight outputs).", 14 VCCN (power) "Power supply for output drivers.", 15 Q4 (out) "Clock output.", 16 Q5 (out) "Clock output.", 17 GND (power) "Ground.", 18 Q6 (out) "Clock output.", 19 Q7 (out) "Clock output.", 20 VCCN (power) "Power supply for output drivers.", 21 GND (power) "Ground.", 22 NC "No connect.", 23 TEST (in) "Three level select. See TEST MODE.", 24 GND (power) "Ground."